# Altium footprint library SW SMD.PcbLib: 1 footprints
Each footprint in its own frame and in the unit in brackets; x right, y up, seen from the top. Pads: shape width x height; smd on the part's side, far side on the other; paste and mask are expansions set on the pad; w line width, h text height; cw(c..) or ccw(c..) is an arc to the next point about the centre after c.
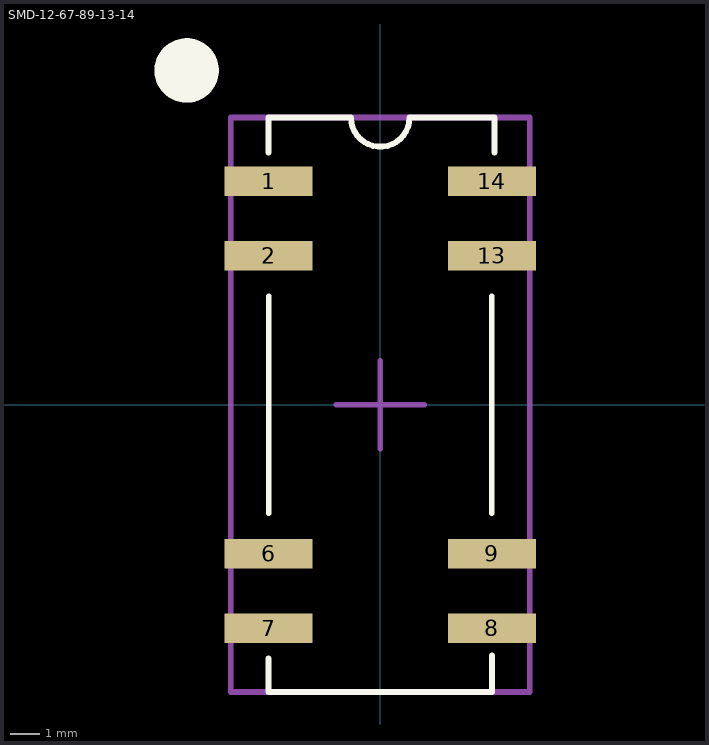
[diagram p0: the footprint, top view; thin cyan lines are the x and y axes]

## SMD-12-67-89-13-14 [mm]
pads (8):
  rect 3x1 smd: 1(-3.81,7.62) 2(-3.81,5.08) 6(-3.81,-5.08) 7(-3.81,-7.62) 8(3.81,-7.62) 9(3.81,-5.08) 13(3.81,5.08) 14(3.81,7.62)
Top Overlay:
  circle w1.2: c-6.6,11.4 r0.5
  lines w0.2: -3.81,-9.8 -3.81,-8.65 ; -3.81,8.6 -3.81,9.8 -1,9.8 ccw(c0,9.8) 1,9.8 3.9,9.8 3.9,8.6 ; -3.8,-9.8 3.81,-9.8 3.81,-8.55 ; -3.8,-3.7 -3.8,3.7 ; 3.8,-3.7 3.8,3.7
Assembly:
  lines w0.2: -5.1,-9.8 5.1,-9.8 5.1,9.8 -5.1,9.8 -5.1,-9.8
Mechanical 15:
  lines w0.2: -1.5,0 1.5,0 ; 0,-1.5 0,1.5 ; -5.1,-9.8 5.1,-9.8 5.1,9.8 -5.1,9.8 -5.1,-9.8
3D body "TRR-1A-05-S-00-R.step": height 5.3, standoff 0, extent -5.1,-9.8 5.1,9.8